# Altium schematic symbol library URB_ZP-10WR3.SchLib: 1 symbol
Pins are listed as number, name and electrical type; pins without a type are passive.

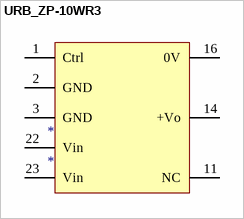
[diagram p0: symbol URB_ZP-10WR3]

## URB_ZP-10WR3
designator *
pins: 1 Ctrl, 2 GND, 3 GND, 11 NC, 14 +Vo, 16 0V, 22 Vin, 23 Vin